# Altium footprint library PCB - THT - GBU2.PCBLIB: 1 footprints
Each footprint in its own frame and in the unit in brackets; x right, y up, seen from the top. Pads: shape width x height; smd on the part's side, far side on the other; paste and mask are expansions set on the pad; w line width, h text height; cw(c..) or ccw(c..) is an arc to the next point about the centre after c.
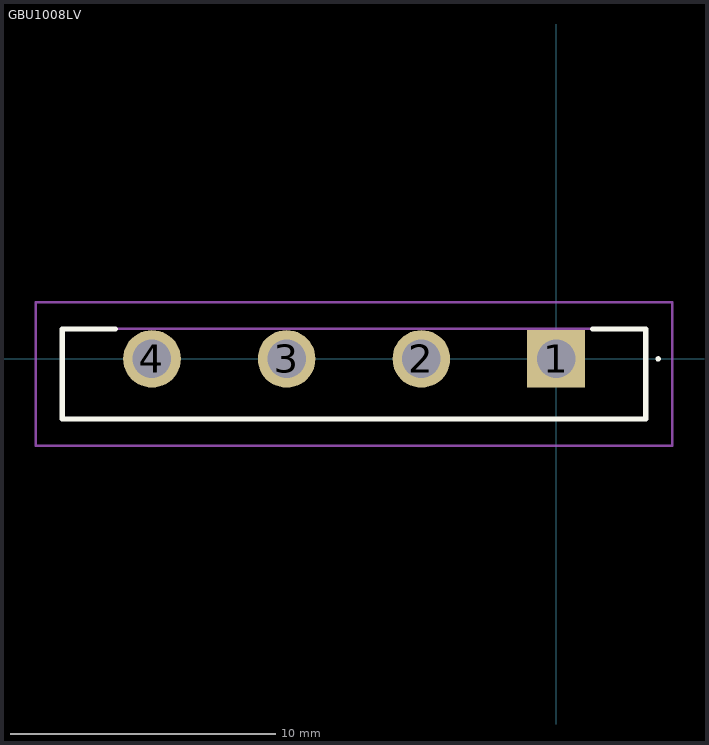
[diagram p0: the footprint, top view; thin cyan lines are the x and y axes]

## GBU1008LV [mm]
pads (4):
  rect 2.175x2.175 hole 1.45: 1(0,0)
  round 2.175 hole 1.45: 2(-5.08,0) 3(-10.16,0) 4(-15.24,0)
Top Overlay:
  lines w0.1: 3.8,0 ccw(c3.85,0) 3.9,0 ccw(c3.85,0) 3.8,0
  lines w0.2: -16.62,1.13 -16.82,1.13 -18.62,1.13 -18.62,-2.27 3.38,-2.27 3.38,1.13 1.38,1.13
Top Value (Mech13):
  lines w0.1: -18.62,-2.27 3.38,-2.27 3.38,1.13 -18.62,1.13 -18.62,-2.27
Mechanical 15:
  lines w0.1: -19.62,-3.27 4.38,-3.27 4.38,2.13 -19.62,2.13 -19.62,-3.27
3D body "GBU1008LV_T0_00601.stp": height 21.65, standoff -5, extent -18.62,-2.27 3.38,1.13